# EAGLE library part CC-PRO32 (library Conrad)
C-Control-Pro 32 part number: 19 82 06 - 93
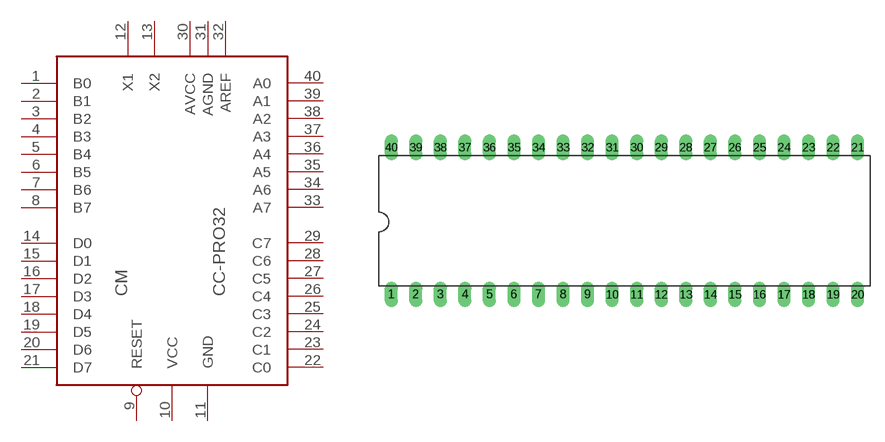
[diagram p1: symbol with the pads of DIL40; footprint DIL40]

Designator prefix CM

## CC-PRO32  [DIL40]
1  B0
2  B1
3  B2
4  B3
5  B4
6  B5
7  B6
8  B7
9  RESET
10  VCC
11  GND
12  X1
13  X2
14  D0
15  D1
16  D2
17  D3
18  D4
19  D5
20  D6
21  D7
22  C0
23  C1
24  C2
25  C3
26  C4
27  C5
28  C6
29  C7
30  AVCC
31  AGND
32  AREF
33  A7
34  A6
35  A5
36  A4
37  A3
38  A2
39  A1
40  A0

## Footprint DIL40 (pad centres in mm)
Dual In Line Package
drill 0.813 long: 1 -24.13,-7.62; 2 -21.59,-7.62; 3 -19.05,-7.62; 4 -16.51,-7.62; 5 -13.97,-7.62; 6 -11.43,-7.62; 7 -8.89,-7.62; 8 -6.35,-7.62; 9 -3.81,-7.62; 10 -1.27,-7.62; 11 1.27,-7.62; 12 3.81,-7.62; 13 6.35,-7.62; 14 8.89,-7.62; 15 11.43,-7.62; 16 13.97,-7.62; 17 16.51,-7.62; 18 19.05,-7.62; 19 21.59,-7.62; 20 24.13,-7.62; 21 24.13,7.62; 22 21.59,7.62; 23 19.05,7.62; 24 16.51,7.62; 25 13.97,7.62; 26 11.43,7.62; 27 8.89,7.62; 28 6.35,7.62; 29 3.81,7.62; 30 1.27,7.62; 31 -1.27,7.62; 32 -3.81,7.62; 33 -6.35,7.62; 34 -8.89,7.62; 35 -11.43,7.62; 36 -13.97,7.62; 37 -16.51,7.62; 38 -19.05,7.62; 39 -21.59,7.62; 40 -24.13,7.62